# Altium schematic symbol library kmilo17pet-Maxim_Sensors.SchLib: 1172 symbols (part 2 of 61)
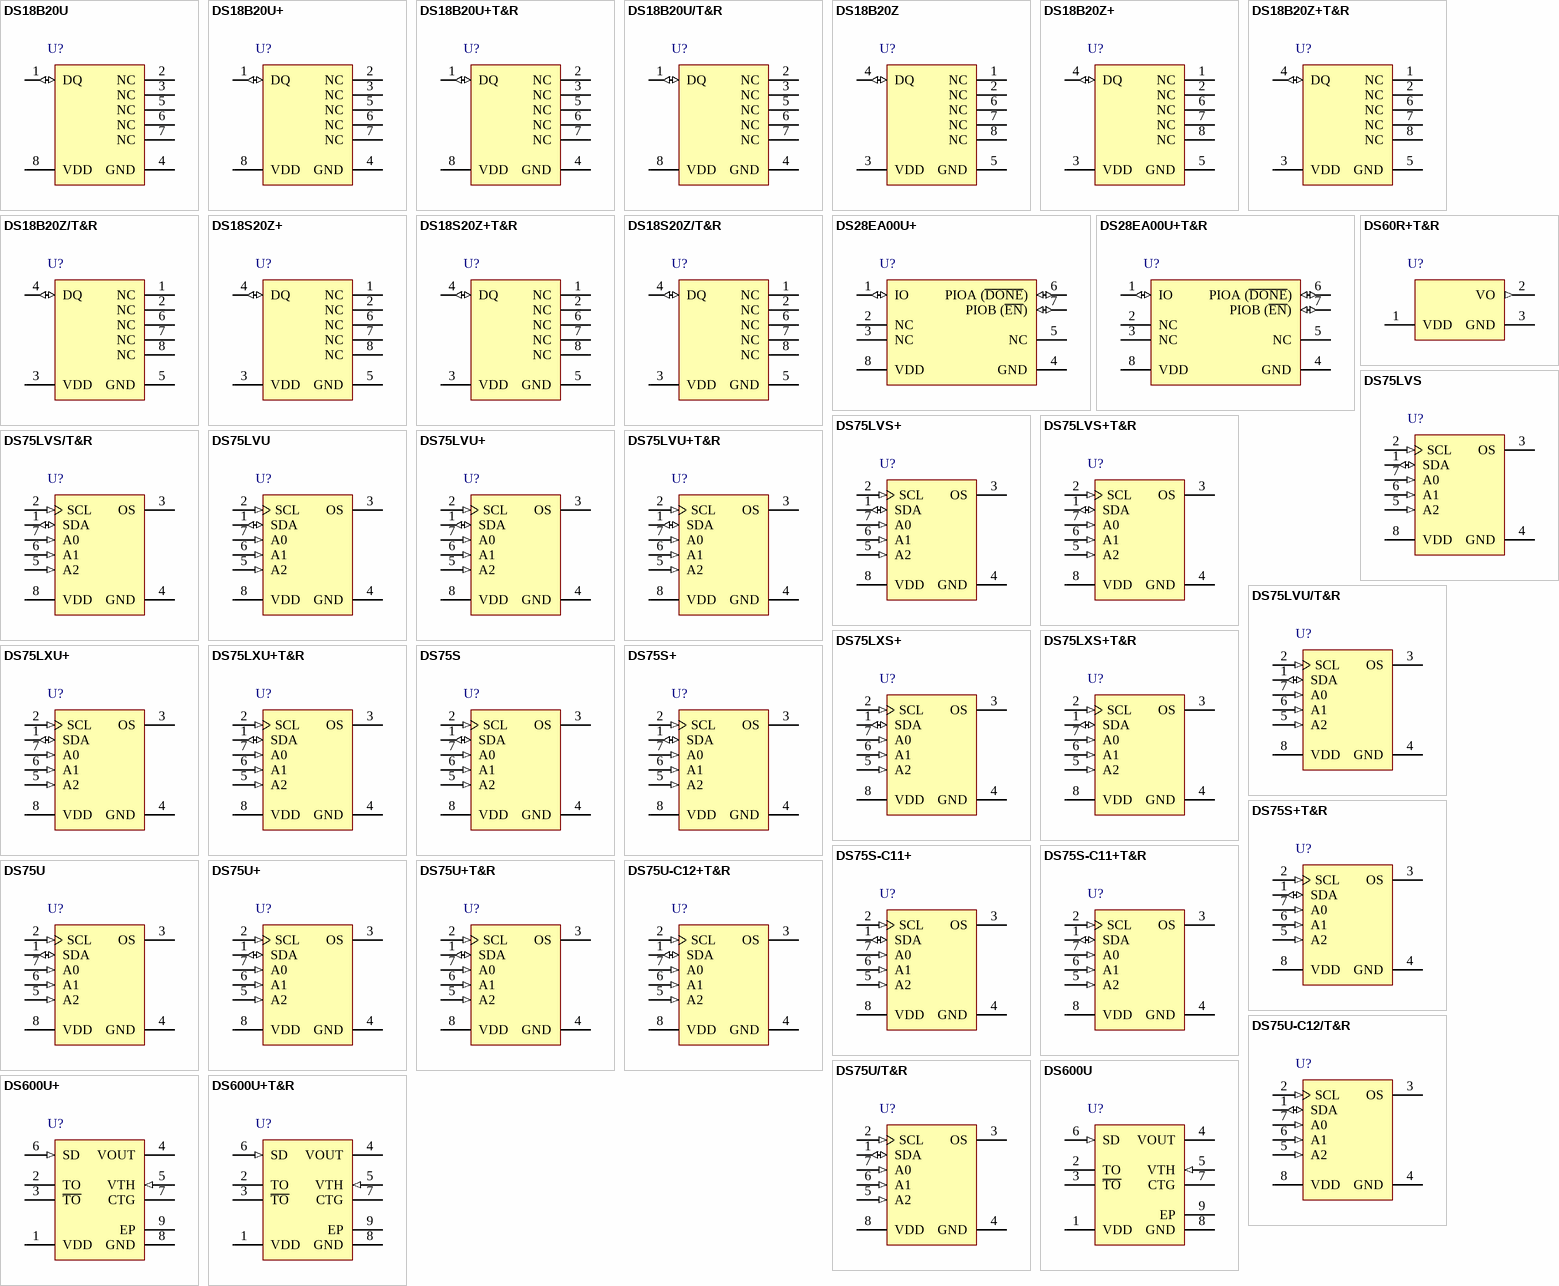
[diagram p34: symbols DS18B20U to DS600U+T&R]

## DS75S-C11+
designator U?
Digital Thermometer and Thermostat, 9 to 12 Bits Temperature Resolution, -55 to 125 degC, 8-Pin SOIC (S8+2), Pb-Free; Generic Part Number: DS75; PartNumber: DS75S-C11+; Interface: 2-Wire/I2C/SMBus; Multi Droppable: Yes; Parasite Pwr.: No; DatasheetVersion: Rev. 4; PackageVersion: Rev. D, 10/2012; PackageReference: S8+2; PackageDescription: 8-Pin Small-Outline IC, Narrow (0.15in) (S8+2), Body 4.90 x 3.90 mm, Pitch 1.27 mm; Supplier 1: Digi-Key; Supplier Part Number 1: DS75S-C11+-ND; Supplier 2: Mouser; Supplier Part Number 2: 700-DS75S-C11+; Mounting Technology: Surface Mount; Code_JEDEC: MS012; ComponentLink1Description: Manufacturer URL; ComponentLink1URL: http://www.maximintegrated.com/; ComponentLink2Description: Datasheet; ComponentLink2URL: http://datasheets.maximintegrated.com/en/ds/DS75.pdf; ComponentLink3Description: Package Specification; ComponentLink3URL: http://pdfserv.maximintegrated.com/package_dwgs/21-0041.PDF
footprint MAXM-S8+2_N (SOIC, 8-Leads, Body 4.90x3.90mm, Pitch 1.27mm, IPC Medium Density)
footprint MAXM-S8+2_L (SOIC, 8-Leads, Body 4.90x3.90mm, Pitch 1.27mm, IPC High Density)
footprint MAXM-S8+2_M (SOIC, 8-Leads, Body 4.90x3.90mm, Pitch 1.27mm, IPC Low Density)
pins: 1 SDA (io) "Data input/output pin for 2-wire serial communication port. Open drain.", 2 SCL (in) "Clock input pin for 2-wire serial communication port.", 3 OS (oc) "Thermostat output. Open drain.", 4 GND (power) "Ground pin.", 5 A2 (in) "Address input pin.", 6 A1 (in) "Address input pin.", 7 A0 (in) "Address input pin.", 8 VDD (power) "Supply Voltage. +2.7V to +5.5V supply pin."

## DS75S-C11+T&R
designator U?
Digital Thermometer and Thermostat, 9 to 12 Bits Temperature Resolution, -55 to 125 degC, 8-Pin SOIC (S8+2), Pb-Free, Tape and Reel; Generic Part Number: DS75; PartNumber: DS75S-C11+T&R; Interface: 2-Wire/I2C/SMBus; Multi Droppable: Yes; Parasite Pwr.: No; DatasheetVersion: Rev. 4; PackageVersion: Rev. D, 10/2012; PackageReference: S8+2; PackageDescription: 8-Pin Small-Outline IC, Narrow (0.15in) (S8+2), Body 4.90 x 3.90 mm, Pitch 1.27 mm; Supplier 1: Digi-Key; Supplier Part Number 1: DS75S-C11+T&R-ND; Supplier 2: Mouser; Supplier Part Number 2: 700-DS75S-C11+T&R; Packing: Tape and Reel; Mounting Technology: Surface Mount; Code_JEDEC: MS012; ComponentLink1Description: Manufacturer URL; ComponentLink1URL: http://www.maximintegrated.com/; ComponentLink2Description: Datasheet; ComponentLink2URL: http://datasheets.maximintegrated.com/en/ds/DS75.pdf; ComponentLink3Description: Package Specification; ComponentLink3URL: http://pdfserv.maximintegrated.com/package_dwgs/21-0041.PDF
footprint MAXM-S8+2_N (SOIC, 8-Leads, Body 4.90x3.90mm, Pitch 1.27mm, IPC Medium Density)
footprint MAXM-S8+2_L (SOIC, 8-Leads, Body 4.90x3.90mm, Pitch 1.27mm, IPC High Density)
footprint MAXM-S8+2_M (SOIC, 8-Leads, Body 4.90x3.90mm, Pitch 1.27mm, IPC Low Density)
pins: 1 SDA (io) "Data input/output pin for 2-wire serial communication port. Open drain.", 2 SCL (in) "Clock input pin for 2-wire serial communication port.", 3 OS (oc) "Thermostat output. Open drain.", 4 GND (power) "Ground pin.", 5 A2 (in) "Address input pin.", 6 A1 (in) "Address input pin.", 7 A0 (in) "Address input pin.", 8 VDD (power) "Supply Voltage. +2.7V to +5.5V supply pin."

## DS75U
designator U?
Digital Thermometer and Thermostat, 9 to 12 Bits Temperature Resolution, -55 to 125 degC, 8-Pin SOP (U8-1); Generic Part Number: DS75; PartNumber: DS75U; Interface: 2-Wire/I2C/SMBus; Multi Droppable: Yes; Parasite Pwr.: No; DatasheetVersion: Rev. 4; PackageVersion: Rev. L, 08/2009; PackageReference: U8-1; PackageDescription: 8-Pin Micro-MAX, Thin Shrink Small-Outline (U8-1), Body 3 x 3 mm, Pitch 0.65mm; Supplier 1: Digi-Key; Supplier Part Number 1: DS75U-ND; Supplier 2: Mouser; Supplier Part Number 2: N/A; Mounting Technology: Surface Mount; Code_JEDEC: MO-187; ComponentLink1Description: Manufacturer URL; ComponentLink1URL: http://www.maximintegrated.com/; ComponentLink2Description: Datasheet; ComponentLink2URL: http://datasheets.maximintegrated.com/en/ds/DS75.pdf; ComponentLink3Description: Package Specification; ComponentLink3URL: http://pdfserv.maximintegrated.com/package_dwgs/21-0036.PDF
footprint MAXM-U8-1_N (SOP, 8-Leads, Body 3x3mm, Pitch 0.65mm, IPC Medium Density)
footprint MAXM-U8-1_L (SOP, 8-Leads, Body 3x3mm, Pitch 0.65mm, IPC High Density)
footprint MAXM-U8-1_M (SOP, 8-Leads, Body 3x3mm, Pitch 0.65mm, IPC Low Density)
pins: 1 SDA (io) "Data input/output pin for 2-wire serial communication port. Open drain.", 2 SCL (in) "Clock input pin for 2-wire serial communication port.", 3 OS (oc) "Thermostat output. Open drain.", 4 GND (power) "Ground pin.", 5 A2 (in) "Address input pin.", 6 A1 (in) "Address input pin.", 7 A0 (in) "Address input pin.", 8 VDD (power) "Supply Voltage. +2.7V to +5.5V supply pin."

## DS75U+
designator U?
Digital Thermometer and Thermostat, 9 to 12 Bits Temperature Resolution, -55 to 125 degC, 8-Pin SOP (U8+1), Pb-Free; Generic Part Number: DS75; PartNumber: DS75U+; Interface: 2-Wire/I2C/SMBus; Multi Droppable: Yes; Parasite Pwr.: No; DatasheetVersion: Rev. 4; PackageVersion: Rev. L, 08/2009; PackageReference: U8+1; PackageDescription: 8-Pin Micro-MAX, Thin Shrink Small-Outline (U8+1), Body 3 x 3 mm, Pitch 0.65 mm; Supplier 1: Digi-Key; Supplier Part Number 1: DS75U+-ND; Supplier 2: Farnell; Supplier Part Number 2: 2085098; Supplier 3: Newark; Supplier Part Number 3: 89T8697; Supplier 4: Newark; Supplier Part Number 4: 08J6306; Supplier 5: Mouser; Supplier Part Number 5: 700-DS75U; Mounting Technology: Surface Mount; Code_JEDEC: MO-187; ComponentLink1Description: Manufacturer URL; ComponentLink1URL: http://www.maximintegrated.com/; ComponentLink2Description: Datasheet; ComponentLink2URL: http://datasheets.maximintegrated.com/en/ds/DS75.pdf; ComponentLink3Description: Package Specification; ComponentLink3URL: http://pdfserv.maximintegrated.com/package_dwgs/21-0036.PDF
footprint MAXM-U8+1_N (SOP, 8-Leads, Body 3x3mm, Pitch 0.65mm, IPC Medium Density)
footprint MAXM-U8+1_L (SOP, 8-Leads, Body 3x3mm, Pitch 0.65mm, IPC High Density)
footprint MAXM-U8+1_M (SOP, 8-Leads, Body 3x3mm, Pitch 0.65mm, IPC Low Density)
pins: 1 SDA (io) "Data input/output pin for 2-wire serial communication port. Open drain.", 2 SCL (in) "Clock input pin for 2-wire serial communication port.", 3 OS (oc) "Thermostat output. Open drain.", 4 GND (power) "Ground pin.", 5 A2 (in) "Address input pin.", 6 A1 (in) "Address input pin.", 7 A0 (in) "Address input pin.", 8 VDD (power) "Supply Voltage. +2.7V to +5.5V supply pin."

## DS75U+T&R
designator U?
Digital Thermometer and Thermostat, 9 to 12 Bits Temperature Resolution, -55 to 125 degC, 8-Pin SOP (U8+1), Pb-Free, Tape and Reel; Generic Part Number: DS75; PartNumber: DS75U+T&R; Interface: 2-Wire/I2C/SMBus; Multi Droppable: Yes; Parasite Pwr.: No; DatasheetVersion: Rev. 4; PackageVersion: Rev. L, 08/2009; PackageReference: U8+1; PackageDescription: 8-Pin Micro-MAX, Thin Shrink Small-Outline (U8+1), Body 3 x 3 mm, Pitch 0.65 mm; Supplier 1: Digi-Key; Supplier Part Number 1: DS75U+T&R-ND; Supplier 2: Mouser; Supplier Part Number 2: 700-DS75UT&R; Packing: Tape and Reel; Mounting Technology: Surface Mount; Code_JEDEC: MO-187; ComponentLink1Description: Manufacturer URL; ComponentLink1URL: http://www.maximintegrated.com/; ComponentLink2Description: Datasheet; ComponentLink2URL: http://datasheets.maximintegrated.com/en/ds/DS75.pdf; ComponentLink3Description: Package Specification; ComponentLink3URL: http://pdfserv.maximintegrated.com/package_dwgs/21-0036.PDF
footprint MAXM-U8+1_N (SOP, 8-Leads, Body 3x3mm, Pitch 0.65mm, IPC Medium Density)
footprint MAXM-U8+1_L (SOP, 8-Leads, Body 3x3mm, Pitch 0.65mm, IPC High Density)
footprint MAXM-U8+1_M (SOP, 8-Leads, Body 3x3mm, Pitch 0.65mm, IPC Low Density)
pins: 1 SDA (io) "Data input/output pin for 2-wire serial communication port. Open drain.", 2 SCL (in) "Clock input pin for 2-wire serial communication port.", 3 OS (oc) "Thermostat output. Open drain.", 4 GND (power) "Ground pin.", 5 A2 (in) "Address input pin.", 6 A1 (in) "Address input pin.", 7 A0 (in) "Address input pin.", 8 VDD (power) "Supply Voltage. +2.7V to +5.5V supply pin."

## DS75U-C12+T&R
designator U?
Digital Thermometer and Thermostat, 9 to 12 Bits Temperature Resolution, -55 to 125 degC, 8-Pin SOP (U8+1), Pb-Free, Tape and Reel; Generic Part Number: DS75; PartNumber: DS75U-C12+T&R; Interface: 2-Wire/I2C/SMBus; Multi Droppable: Yes; Parasite Pwr.: No; DatasheetVersion: Rev. 4; PackageVersion: Rev. L, 08/2009; PackageReference: U8+1; PackageDescription: 8-Pin Micro-MAX, Thin Shrink Small-Outline (U8+1), Body 3 x 3 mm, Pitch 0.65 mm; Supplier 1: Mouser; Supplier Part Number 1: N/A; Packing: Tape and Reel; Mounting Technology: Surface Mount; Code_JEDEC: MO-187; ComponentLink1Description: Manufacturer URL; ComponentLink1URL: http://www.maximintegrated.com/; ComponentLink2Description: Datasheet; ComponentLink2URL: http://datasheets.maximintegrated.com/en/ds/DS75.pdf; ComponentLink3Description: Package Specification; ComponentLink3URL: http://pdfserv.maximintegrated.com/package_dwgs/21-0036.PDF
footprint MAXM-U8+1_N (SOP, 8-Leads, Body 3x3mm, Pitch 0.65mm, IPC Medium Density)
footprint MAXM-U8+1_L (SOP, 8-Leads, Body 3x3mm, Pitch 0.65mm, IPC High Density)
footprint MAXM-U8+1_M (SOP, 8-Leads, Body 3x3mm, Pitch 0.65mm, IPC Low Density)
pins: 1 SDA (io) "Data input/output pin for 2-wire serial communication port. Open drain.", 2 SCL (in) "Clock input pin for 2-wire serial communication port.", 3 OS (oc) "Thermostat output. Open drain.", 4 GND (power) "Ground pin.", 5 A2 (in) "Address input pin.", 6 A1 (in) "Address input pin.", 7 A0 (in) "Address input pin.", 8 VDD (power) "Supply Voltage. +2.7V to +5.5V supply pin."

## DS75U-C12/T&R
designator U?
Digital Thermometer and Thermostat, 9 to 12 Bits Temperature Resolution, -55 to 125 degC, 8-Pin SOP (U8-1), Tape and Reel; Generic Part Number: DS75; PartNumber: DS75U-C12/T&R; Interface: 2-Wire/I2C/SMBus; Multi Droppable: Yes; Parasite Pwr.: No; DatasheetVersion: Rev. 4; PackageVersion: Rev. L, 08/2009; PackageReference: U8-1; PackageDescription: 8-Pin Micro-MAX, Thin Shrink Small-Outline (U8-1), Body 3 x 3 mm, Pitch 0.65mm; Supplier 1: Mouser; Supplier Part Number 1: N/A; Packing: Tape and Reel; Mounting Technology: Surface Mount; Code_JEDEC: MO-187; ComponentLink1Description: Manufacturer URL; ComponentLink1URL: http://www.maximintegrated.com/; ComponentLink2Description: Datasheet; ComponentLink2URL: http://datasheets.maximintegrated.com/en/ds/DS75.pdf; ComponentLink3Description: Package Specification; ComponentLink3URL: http://pdfserv.maximintegrated.com/package_dwgs/21-0036.PDF
footprint MAXM-U8-1_N (SOP, 8-Leads, Body 3x3mm, Pitch 0.65mm, IPC Medium Density)
footprint MAXM-U8-1_L (SOP, 8-Leads, Body 3x3mm, Pitch 0.65mm, IPC High Density)
footprint MAXM-U8-1_M (SOP, 8-Leads, Body 3x3mm, Pitch 0.65mm, IPC Low Density)
pins: 1 SDA (io) "Data input/output pin for 2-wire serial communication port. Open drain.", 2 SCL (in) "Clock input pin for 2-wire serial communication port.", 3 OS (oc) "Thermostat output. Open drain.", 4 GND (power) "Ground pin.", 5 A2 (in) "Address input pin.", 6 A1 (in) "Address input pin.", 7 A0 (in) "Address input pin.", 8 VDD (power) "Supply Voltage. +2.7V to +5.5V supply pin."

## DS75U/T&R
designator U?
Digital Thermometer and Thermostat, 9 to 12 Bits Temperature Resolution, -55 to 125 degC, 8-Pin SOP (U8-1), Tape and Reel; Generic Part Number: DS75; PartNumber: DS75U/T&R; Interface: 2-Wire/I2C/SMBus; Multi Droppable: Yes; Parasite Pwr.: No; DatasheetVersion: Rev. 4; PackageVersion: Rev. L, 08/2009; PackageReference: U8-1; PackageDescription: 8-Pin Micro-MAX, Thin Shrink Small-Outline (U8-1), Body 3 x 3 mm, Pitch 0.65mm; Supplier 1: Mouser; Supplier Part Number 1: N/A; Packing: Tape and Reel; Mounting Technology: Surface Mount; Code_JEDEC: MO-187; ComponentLink1Description: Manufacturer URL; ComponentLink1URL: http://www.maximintegrated.com/; ComponentLink2Description: Datasheet; ComponentLink2URL: http://datasheets.maximintegrated.com/en/ds/DS75.pdf; ComponentLink3Description: Package Specification; ComponentLink3URL: http://pdfserv.maximintegrated.com/package_dwgs/21-0036.PDF
footprint MAXM-U8-1_N (SOP, 8-Leads, Body 3x3mm, Pitch 0.65mm, IPC Medium Density)
footprint MAXM-U8-1_L (SOP, 8-Leads, Body 3x3mm, Pitch 0.65mm, IPC High Density)
footprint MAXM-U8-1_M (SOP, 8-Leads, Body 3x3mm, Pitch 0.65mm, IPC Low Density)
pins: 1 SDA (io) "Data input/output pin for 2-wire serial communication port. Open drain.", 2 SCL (in) "Clock input pin for 2-wire serial communication port.", 3 OS (oc) "Thermostat output. Open drain.", 4 GND (power) "Ground pin.", 5 A2 (in) "Address input pin.", 6 A1 (in) "Address input pin.", 7 A0 (in) "Address input pin.", 8 VDD (power) "Supply Voltage. +2.7V to +5.5V supply pin."

## DS600U
designator U?
+ / -0.5 degC (Max) Accurate Analog Output Temperature Sensor, -40 to 125 degC, 8-Pin SOP (U8E-2); Generic Part Number: DS600; PartNumber: DS600U; Functions: Standalone Thermostat; Parasite Pwr.: No; DatasheetVersion: Rev. 2; PackageVersion: Rev. E, 05/2011; PackageReference: U8E-2; PackageDescription: 8-Pin Micro-MAX, Thin Shrink Small-Outline, Exposed Pad, Body 3 x 3 mm, Exposed Pad 2.36 x 1.69 mm, Pitch 0.65 mm; Supplier 1: Mouser; Supplier Part Number 1: N/A; Interface: Analog; Mounting Technology: Surface Mount; Code_JEDEC: MO-187; ComponentLink1Description: Manufacturer URL; ComponentLink1URL: http://www.maximintegrated.com/; ComponentLink2Description: Datasheet; ComponentLink2URL: http://datasheets.maximintegrated.com/en/ds/DS600.pdf; ComponentLink3Description: Package Specification; ComponentLink3URL: http://pdfserv.maximintegrated.com/package_dwgs/21-0107.PDF
footprint MAXM-U8E-2_N (SOP, 8-Leads, Body 3x3mm, Pitch 0.65mm, Thermal Pad 2.36x1.69 mm, IPC Medium Density)
footprint MAXM-U8E-2_L (SOP, 8-Leads, Body 3x3mm, Pitch 0.65mm, Thermal Pad 2.36x1.69 mm, IPC High Density)
footprint MAXM-U8E-2_M (SOP, 8-Leads, Body 3x3mm, Pitch 0.65mm, Thermal Pad 2.36x1.69 mm, IPC Low Density)
pins: 1 VDD (power) "Supply Voltage. 2.7V to 5.5V", 2 TO (oc) "Active-High Thermostat Output. Open-drain output transitions from low to high when the output voltage exceeds VTH. In shutdown mode, (SD = 1), TO is low.", 3 ~{TO} (oc) "Active-Low Thermostat Output. Open-drain output transitions from high to low when the output voltage exceeds VTH. In shutdown mode, (SD = 1), T\O\ is high", 4 VOUT (hiz) "Temperature Output. Outputs a voltage that is proportional to the die temperature in degrees centigrade. In shutdown mode, this pin goes high-Z", 5 VTH (in) "Thermostat Trip Voltage. User-selectable voltage that sets the thermostat trip-point temperature. TO and T\O\ are asserted when VOUT crosses this voltage. (No on-chip hysteresis is present).", 6 SD (in) "Shutdown. Power consumption and thermal sensor function are controlled through SD. This pin  functions as an active-high input pin. Driving this pin high puts the device in a low-power state and discontinues thermal sensing", 7 CTG (power) "Must be connected to GND.", 8 GND (power) "Ground.", 9 EP (power) "PAD. Connect to GND or float. DO NOT CONNECT TO SUPPLY."

## DS600U+
designator U?
+ / -0.5 degC (Max) Accurate Analog Output Temperature Sensor, -40 to 125 degC, 8-Pin SOP (U8E+2), Pb-Free; Generic Part Number: DS600; PartNumber: DS600U+; Functions: Standalone Thermostat; Parasite Pwr.: No; DatasheetVersion: Rev. 2; PackageVersion: Rev. E, 05/2011; PackageReference: U8E+2; PackageDescription: 8-Pin Micro-MAX, Thin Shrink Small-Outline, Exposed Pad, Body 3 x 3 mm, Exposed Pad 2.36 x 1.69 mm, Pitch 0.65 mm; Supplier 1: Digi-Key; Supplier Part Number 1: DS600U+-ND; Supplier 2: Farnell; Supplier Part Number 2: 1422277; Supplier 3: Newark; Supplier Part Number 3: 26R5860; Supplier 4: Mouser; Supplier Part Number 4: 700-DS600U; Interface: Analog; Mounting Technology: Surface Mount; Code_JEDEC: MO-187; ComponentLink1Description: Manufacturer URL; ComponentLink1URL: http://www.maximintegrated.com/; ComponentLink2Description: Datasheet; ComponentLink2URL: http://datasheets.maximintegrated.com/en/ds/DS600.pdf; ComponentLink3Description: Package Specification; ComponentLink3URL: http://pdfserv.maximintegrated.com/package_dwgs/21-0107.PDF
footprint MAXM-U8E+2_N (SOP, 8-Leads, Body 3x3mm, Pitch 0.65mm, Thermal Pad 2.36x1.69 mm, IPC Medium Density)
footprint MAXM-U8E+2_L (SOP, 8-Leads, Body 3x3mm, Pitch 0.65mm, Thermal Pad 2.36x1.69 mm, IPC High Density)
footprint MAXM-U8E+2_M (SOP, 8-Leads, Body 3x3mm, Pitch 0.65mm, Thermal Pad 2.36x1.69 mm, IPC Low Density)
pins: 1 VDD (power) "Supply Voltage. 2.7V to 5.5V", 2 TO (oc) "Active-High Thermostat Output. Open-drain output transitions from low to high when the output voltage exceeds VTH. In shutdown mode, (SD = 1), TO is low.", 3 ~{TO} (oc) "Active-Low Thermostat Output. Open-drain output transitions from high to low when the output voltage exceeds VTH. In shutdown mode, (SD = 1), T\O\ is high", 4 VOUT (hiz) "Temperature Output. Outputs a voltage that is proportional to the die temperature in degrees centigrade. In shutdown mode, this pin goes high-Z", 5 VTH (in) "Thermostat Trip Voltage. User-selectable voltage that sets the thermostat trip-point temperature. TO and T\O\ are asserted when VOUT crosses this voltage. (No on-chip hysteresis is present).", 6 SD (in) "Shutdown. Power consumption and thermal sensor function are controlled through SD. This pin  functions as an active-high input pin. Driving this pin high puts the device in a low-power state and discontinues thermal sensing", 7 CTG (power) "Must be connected to GND.", 8 GND (power) "Ground.", 9 EP (power) "PAD. Connect to GND or float. DO NOT CONNECT TO SUPPLY."

## DS600U+T&R
designator U?
+ / -0.5 degC (Max) Accurate Analog Output Temperature Sensor, -40 to 125 degC, 8-Pin SOP (U8E+2), Pb-Free, Tape and Reel; Generic Part Number: DS600; PartNumber: DS600U+T&R; Functions: Standalone Thermostat; Parasite Pwr.: No; DatasheetVersion: Rev. 2; PackageVersion: Rev. E, 05/2011; PackageReference: U8E+2; PackageDescription: 8-Pin Micro-MAX, Thin Shrink Small-Outline, Exposed Pad, Body 3 x 3 mm, Exposed Pad 2.36 x 1.69 mm, Pitch 0.65 mm; Supplier 1: Digi-Key; Supplier Part Number 1: DS600U+T&R-ND; Supplier 2: Mouser; Supplier Part Number 2: 700-DS600UT&R; Interface: Analog; Packing: Tape and Reel; Mounting Technology: Surface Mount; Code_JEDEC: MO-187; ComponentLink1Description: Manufacturer URL; ComponentLink1URL: http://www.maximintegrated.com/; ComponentLink2Description: Datasheet; ComponentLink2URL: http://datasheets.maximintegrated.com/en/ds/DS600.pdf; ComponentLink3Description: Package Specification; ComponentLink3URL: http://pdfserv.maximintegrated.com/package_dwgs/21-0107.PDF
footprint MAXM-U8E+2_N (SOP, 8-Leads, Body 3x3mm, Pitch 0.65mm, Thermal Pad 2.36x1.69 mm, IPC Medium Density)
footprint MAXM-U8E+2_L (SOP, 8-Leads, Body 3x3mm, Pitch 0.65mm, Thermal Pad 2.36x1.69 mm, IPC High Density)
footprint MAXM-U8E+2_M (SOP, 8-Leads, Body 3x3mm, Pitch 0.65mm, Thermal Pad 2.36x1.69 mm, IPC Low Density)
pins: 1 VDD (power) "Supply Voltage. 2.7V to 5.5V", 2 TO (oc) "Active-High Thermostat Output. Open-drain output transitions from low to high when the output voltage exceeds VTH. In shutdown mode, (SD = 1), TO is low.", 3 ~{TO} (oc) "Active-Low Thermostat Output. Open-drain output transitions from high to low when the output voltage exceeds VTH. In shutdown mode, (SD = 1), T\O\ is high", 4 VOUT (hiz) "Temperature Output. Outputs a voltage that is proportional to the die temperature in degrees centigrade. In shutdown mode, this pin goes high-Z", 5 VTH (in) "Thermostat Trip Voltage. User-selectable voltage that sets the thermostat trip-point temperature. TO and T\O\ are asserted when VOUT crosses this voltage. (No on-chip hysteresis is present).", 6 SD (in) "Shutdown. Power consumption and thermal sensor function are controlled through SD. This pin  functions as an active-high input pin. Driving this pin high puts the device in a low-power state and discontinues thermal sensing", 7 CTG (power) "Must be connected to GND.", 8 GND (power) "Ground.", 9 EP (power) "PAD. Connect to GND or float. DO NOT CONNECT TO SUPPLY."

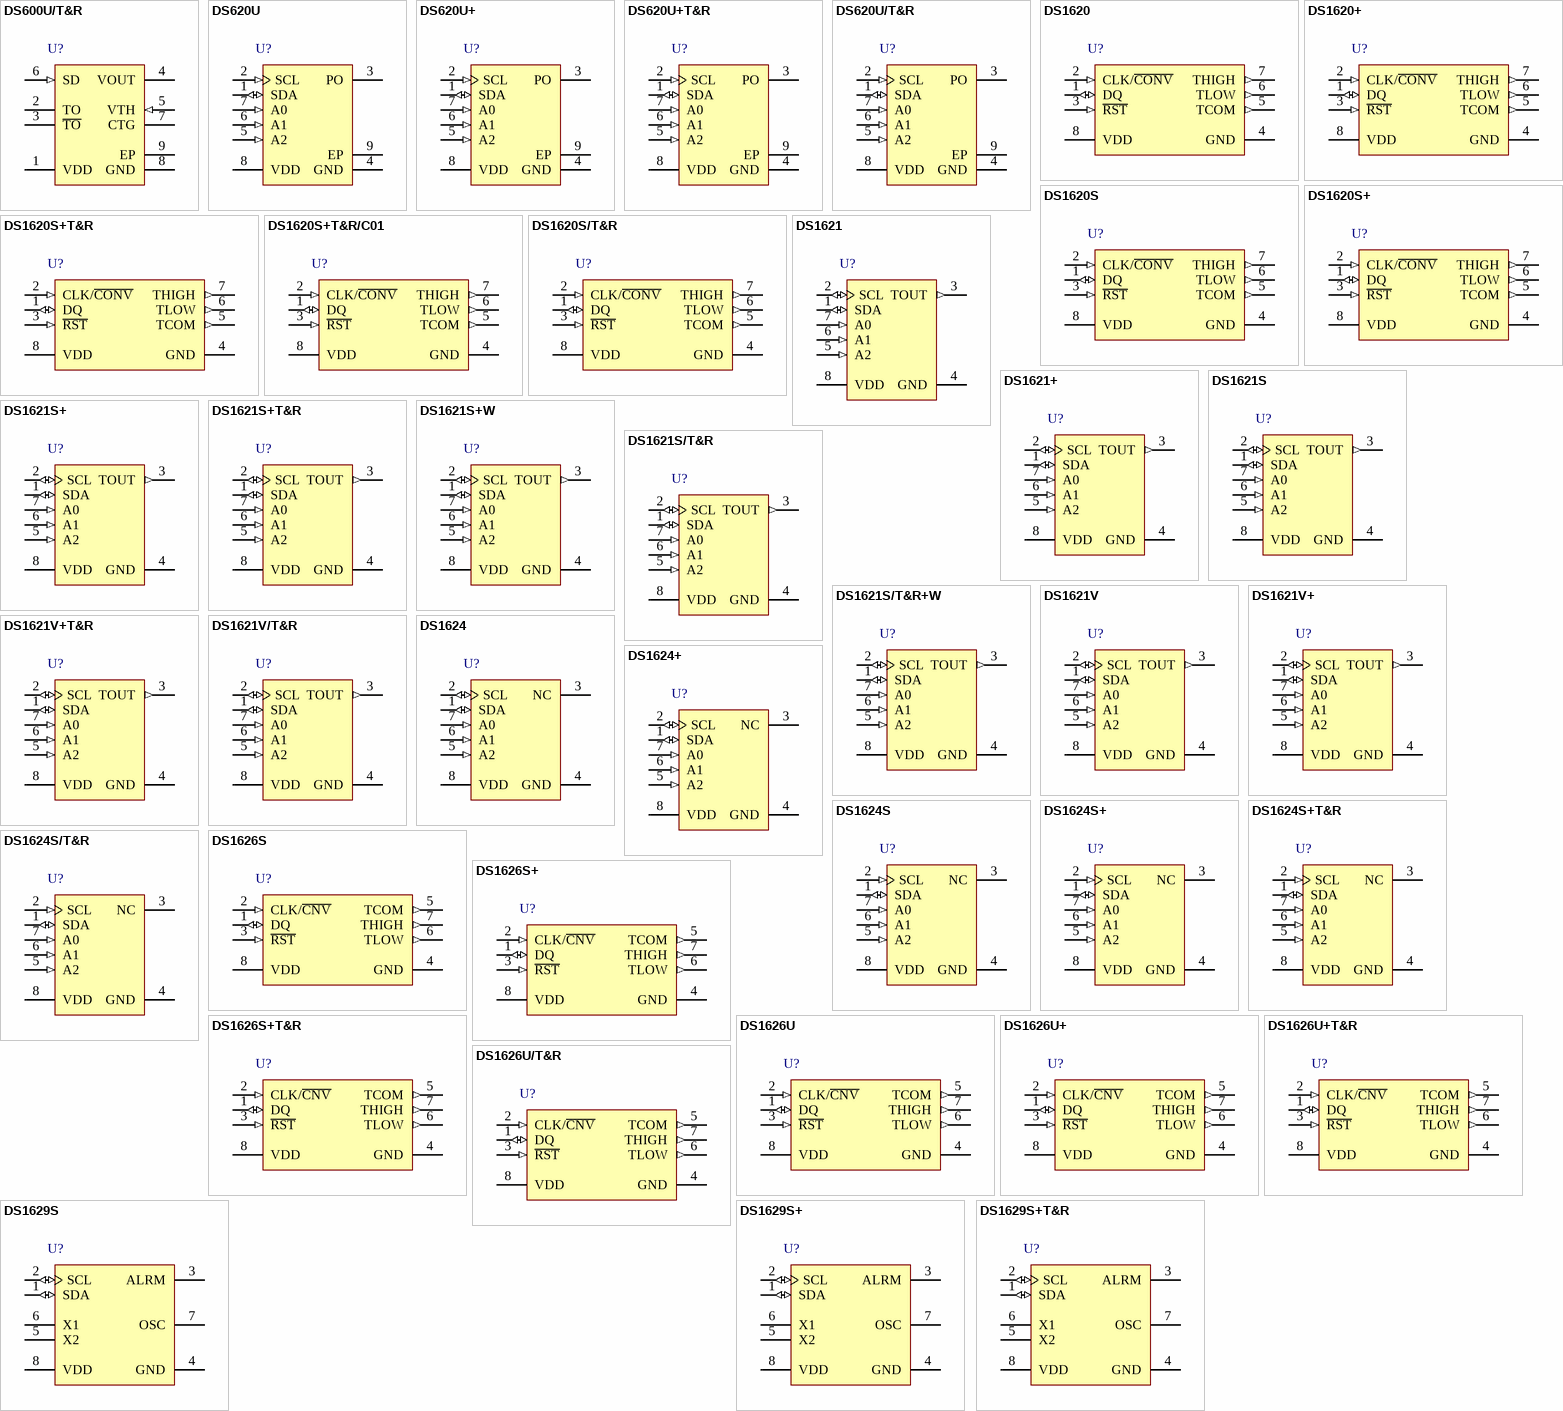
[diagram p1: symbols DS600U/T&R to DS1629S+T&R]

## DS600U/T&R
designator U?
+ / -0.5 degC (Max) Accurate Analog Output Temperature Sensor, -40 to 125 degC, 8-Pin SOP (U8E-2), Tape and Reel; Generic Part Number: DS600; PartNumber: DS600U/T&R; Functions: Standalone Thermostat; Parasite Pwr.: No; DatasheetVersion: Rev. 2; PackageVersion: Rev. E, 05/2011; PackageReference: U8E-2; PackageDescription: 8-Pin Micro-MAX, Thin Shrink Small-Outline, Exposed Pad, Body 3 x 3 mm, Exposed Pad 2.36 x 1.69 mm, Pitch 0.65 mm; Supplier 1: Mouser; Supplier Part Number 1: N/A; Interface: Analog; Packing: Tape and Reel; Mounting Technology: Surface Mount; Code_JEDEC: MO-187; ComponentLink1Description: Manufacturer URL; ComponentLink1URL: http://www.maximintegrated.com/; ComponentLink2Description: Datasheet; ComponentLink2URL: http://datasheets.maximintegrated.com/en/ds/DS600.pdf; ComponentLink3Description: Package Specification; ComponentLink3URL: http://pdfserv.maximintegrated.com/package_dwgs/21-0107.PDF
footprint MAXM-U8E-2_N (SOP, 8-Leads, Body 3x3mm, Pitch 0.65mm, Thermal Pad 2.36x1.69 mm, IPC Medium Density)
footprint MAXM-U8E-2_L (SOP, 8-Leads, Body 3x3mm, Pitch 0.65mm, Thermal Pad 2.36x1.69 mm, IPC High Density)
footprint MAXM-U8E-2_M (SOP, 8-Leads, Body 3x3mm, Pitch 0.65mm, Thermal Pad 2.36x1.69 mm, IPC Low Density)
pins: 1 VDD (power) "Supply Voltage. 2.7V to 5.5V", 2 TO (oc) "Active-High Thermostat Output. Open-drain output transitions from low to high when the output voltage exceeds VTH. In shutdown mode, (SD = 1), TO is low.", 3 ~{TO} (oc) "Active-Low Thermostat Output. Open-drain output transitions from high to low when the output voltage exceeds VTH. In shutdown mode, (SD = 1), T\O\ is high", 4 VOUT (hiz) "Temperature Output. Outputs a voltage that is proportional to the die temperature in degrees centigrade. In shutdown mode, this pin goes high-Z", 5 VTH (in) "Thermostat Trip Voltage. User-selectable voltage that sets the thermostat trip-point temperature. TO and T\O\ are asserted when VOUT crosses this voltage. (No on-chip hysteresis is present).", 6 SD (in) "Shutdown. Power consumption and thermal sensor function are controlled through SD. This pin  functions as an active-high input pin. Driving this pin high puts the device in a low-power state and discontinues thermal sensing", 7 CTG (power) "Must be connected to GND.", 8 GND (power) "Ground.", 9 EP (power) "PAD. Connect to GND or float. DO NOT CONNECT TO SUPPLY."

## DS620U
designator U?
Low-Voltage, + / -0.5 degC Accuracy Temperature Sensor and Thermostat, 10 to 13 Bits Temperature Resolution, -55 to 125 degC, 8-Pin SOP (U8E-2); Generic Part Number: DS620; PartNumber: DS620U; Functions: Standalone Thermostat; Interface: 2-Wire/I2C/SMBus; Multi Droppable: Yes; Parasite Pwr.: No; DatasheetVersion: Rev. 0; PackageVersion: Rev. E, 05/2011; PackageReference: U8E-2; PackageDescription: 8-Pin Micro-MAX, Thin Shrink Small-Outline, Exposed Pad, Body 3 x 3 mm, Exposed Pad 2.36 x 1.69 mm, Pitch 0.65 mm; Supplier 1: Mouser; Supplier Part Number 1: N/A; Mounting Technology: Surface Mount; Code_JEDEC: MO-187; ComponentLink1Description: Manufacturer URL; ComponentLink1URL: http://www.maximintegrated.com/; ComponentLink2Description: Datasheet; ComponentLink2URL: http://datasheets.maximintegrated.com/en/ds/DS620.pdf; ComponentLink3Description: Package Specification; ComponentLink3URL: http://pdfserv.maximintegrated.com/package_dwgs/21-0107.PDF
footprint MAXM-U8E-2_N (SOP, 8-Leads, Body 3x3mm, Pitch 0.65mm, Thermal Pad 2.36x1.69 mm, IPC Medium Density)
footprint MAXM-U8E-2_L (SOP, 8-Leads, Body 3x3mm, Pitch 0.65mm, Thermal Pad 2.36x1.69 mm, IPC High Density)
footprint MAXM-U8E-2_M (SOP, 8-Leads, Body 3x3mm, Pitch 0.65mm, Thermal Pad 2.36x1.69 mm, IPC Low Density)
pins: 1 SDA (io) "Data Input/Output Pin for serial communication. Open drain. (No diode connection to VDD).", 2 SCL (in) "Clock Input Pin for 2-wire serial communication.", 3 PO (oc) "Programmable Output Pin. Open drain. (No diode connection to VDD).", 4 GND (power) "Ground Pin.", 5 A2 (in) "Address Input Pin.", 6 A1 (in) "Address Input Pin. Also serves as an input to trigger one-shot conversions during standalone use.", 7 A0 (in) "Address Input Pin.", 8 VDD (power) "Supply Voltage Pin. +1.7V to +3.5V power supply pin.", 9 EP (power) "PAD. Connect to GND or float. DO NOT CONNECT TO SUPPLY"

## DS620U+
designator U?
Low-Voltage, + / -0.5 degC Accuracy Temperature Sensor and Thermostat, 10 to 13 Bits Temperature Resolution, -55 to 125 degC, 8-Pin SOP (U8E+2), Pb-Free; Generic Part Number: DS620; PartNumber: DS620U+; Functions: Standalone Thermostat; Interface: 2-Wire/I2C/SMBus; Multi Droppable: Yes; Parasite Pwr.: No; DatasheetVersion: Rev. 0; PackageVersion: Rev. E, 05/2011; PackageReference: U8E+2; PackageDescription: 8-Pin Micro-MAX, Thin Shrink Small-Outline, Exposed Pad, Body 3 x 3 mm, Exposed Pad 2.36 x 1.69 mm, Pitch 0.65 mm; Supplier 1: Digi-Key; Supplier Part Number 1: DS620U+-ND; Supplier 2: Farnell; Supplier Part Number 2: 2113186; Supplier 3: Newark; Supplier Part Number 3: 95T8629; Supplier 4: Mouser; Supplier Part Number 4: 700-DS620U; Mounting Technology: Surface Mount; Code_JEDEC: MO-187; ComponentLink1Description: Manufacturer URL; ComponentLink1URL: http://www.maximintegrated.com/; ComponentLink2Description: Datasheet; ComponentLink2URL: http://datasheets.maximintegrated.com/en/ds/DS620.pdf; ComponentLink3Description: Package Specification; ComponentLink3URL: http://pdfserv.maximintegrated.com/package_dwgs/21-0107.PDF
footprint MAXM-U8E+2_N (SOP, 8-Leads, Body 3x3mm, Pitch 0.65mm, Thermal Pad 2.36x1.69 mm, IPC Medium Density)
footprint MAXM-U8E+2_L (SOP, 8-Leads, Body 3x3mm, Pitch 0.65mm, Thermal Pad 2.36x1.69 mm, IPC High Density)
footprint MAXM-U8E+2_M (SOP, 8-Leads, Body 3x3mm, Pitch 0.65mm, Thermal Pad 2.36x1.69 mm, IPC Low Density)
pins: 1 SDA (io) "Data Input/Output Pin for serial communication. Open drain. (No diode connection to VDD).", 2 SCL (in) "Clock Input Pin for 2-wire serial communication.", 3 PO (oc) "Programmable Output Pin. Open drain. (No diode connection to VDD).", 4 GND (power) "Ground Pin.", 5 A2 (in) "Address Input Pin.", 6 A1 (in) "Address Input Pin. Also serves as an input to trigger one-shot conversions during standalone use.", 7 A0 (in) "Address Input Pin.", 8 VDD (power) "Supply Voltage Pin. +1.7V to +3.5V power supply pin.", 9 EP (power) "PAD. Connect to GND or float. DO NOT CONNECT TO SUPPLY"

## DS620U+T&R
designator U?
Low-Voltage, + / -0.5 degC Accuracy Temperature Sensor and Thermostat, 10 to 13 Bits Temperature Resolution, -55 to 125 degC, 8-Pin SOP (U8E+2), Pb-Free, Tape and Reel; Generic Part Number: DS620; PartNumber: DS620U+T&R; Functions: Standalone Thermostat; Interface: 2-Wire/I2C/SMBus; Multi Droppable: Yes; Parasite Pwr.: No; DatasheetVersion: Rev. 0; PackageVersion: Rev. E, 05/2011; PackageReference: U8E+2; PackageDescription: 8-Pin Micro-MAX, Thin Shrink Small-Outline, Exposed Pad, Body 3 x 3 mm, Exposed Pad 2.36 x 1.69 mm, Pitch 0.65 mm; Supplier 1: Digi-Key; Supplier Part Number 1: DS620U+T&R-ND; Supplier 2: Mouser; Supplier Part Number 2: 700-DS620UT&R; Packing: Tape and Reel; Mounting Technology: Surface Mount; Code_JEDEC: MO-187; ComponentLink1Description: Manufacturer URL; ComponentLink1URL: http://www.maximintegrated.com/; ComponentLink2Description: Datasheet; ComponentLink2URL: http://datasheets.maximintegrated.com/en/ds/DS620.pdf; ComponentLink3Description: Package Specification; ComponentLink3URL: http://pdfserv.maximintegrated.com/package_dwgs/21-0107.PDF
footprint MAXM-U8E+2_N (SOP, 8-Leads, Body 3x3mm, Pitch 0.65mm, Thermal Pad 2.36x1.69 mm, IPC Medium Density)
footprint MAXM-U8E+2_L (SOP, 8-Leads, Body 3x3mm, Pitch 0.65mm, Thermal Pad 2.36x1.69 mm, IPC High Density)
footprint MAXM-U8E+2_M (SOP, 8-Leads, Body 3x3mm, Pitch 0.65mm, Thermal Pad 2.36x1.69 mm, IPC Low Density)
pins: 1 SDA (io) "Data Input/Output Pin for serial communication. Open drain. (No diode connection to VDD).", 2 SCL (in) "Clock Input Pin for 2-wire serial communication.", 3 PO (oc) "Programmable Output Pin. Open drain. (No diode connection to VDD).", 4 GND (power) "Ground Pin.", 5 A2 (in) "Address Input Pin.", 6 A1 (in) "Address Input Pin. Also serves as an input to trigger one-shot conversions during standalone use.", 7 A0 (in) "Address Input Pin.", 8 VDD (power) "Supply Voltage Pin. +1.7V to +3.5V power supply pin.", 9 EP (power) "PAD. Connect to GND or float. DO NOT CONNECT TO SUPPLY"

## DS620U/T&R
designator U?
Low-Voltage, + / -0.5 degC Accuracy Temperature Sensor and Thermostat, 10 to 13 Bits Temperature Resolution, -55 to 125 degC, 8-Pin SOP (U8E-2), Tape and Reel; Generic Part Number: DS620; PartNumber: DS620U/T&R; Functions: Standalone Thermostat; Interface: 2-Wire/I2C/SMBus; Multi Droppable: Yes; Parasite Pwr.: No; DatasheetVersion: Rev. 0; PackageVersion: Rev. E, 05/2011; PackageReference: U8E-2; PackageDescription: 8-Pin Micro-MAX, Thin Shrink Small-Outline, Exposed Pad, Body 3 x 3 mm, Exposed Pad 2.36 x 1.69 mm, Pitch 0.65 mm; Supplier 1: Mouser; Supplier Part Number 1: N/A; Packing: Tape and Reel; Mounting Technology: Surface Mount; Code_JEDEC: MO-187; ComponentLink1Description: Manufacturer URL; ComponentLink1URL: http://www.maximintegrated.com/; ComponentLink2Description: Datasheet; ComponentLink2URL: http://datasheets.maximintegrated.com/en/ds/DS620.pdf; ComponentLink3Description: Package Specification; ComponentLink3URL: http://pdfserv.maximintegrated.com/package_dwgs/21-0107.PDF
footprint MAXM-U8E-2_N (SOP, 8-Leads, Body 3x3mm, Pitch 0.65mm, Thermal Pad 2.36x1.69 mm, IPC Medium Density)
footprint MAXM-U8E-2_L (SOP, 8-Leads, Body 3x3mm, Pitch 0.65mm, Thermal Pad 2.36x1.69 mm, IPC High Density)
footprint MAXM-U8E-2_M (SOP, 8-Leads, Body 3x3mm, Pitch 0.65mm, Thermal Pad 2.36x1.69 mm, IPC Low Density)
pins: 1 SDA (io) "Data Input/Output Pin for serial communication. Open drain. (No diode connection to VDD).", 2 SCL (in) "Clock Input Pin for 2-wire serial communication.", 3 PO (oc) "Programmable Output Pin. Open drain. (No diode connection to VDD).", 4 GND (power) "Ground Pin.", 5 A2 (in) "Address Input Pin.", 6 A1 (in) "Address Input Pin. Also serves as an input to trigger one-shot conversions during standalone use.", 7 A0 (in) "Address Input Pin.", 8 VDD (power) "Supply Voltage Pin. +1.7V to +3.5V power supply pin.", 9 EP (power) "PAD. Connect to GND or float. DO NOT CONNECT TO SUPPLY"

## DS1620
designator U?
3-Wire 0.5 degC Accurate Temperature Sensor and Thermostat, -55 to 125 degC, 8-Pin DIP (P8-3); Generic Part Number: DS1620; Functions: Dual Output Temperature Switch, Dual Temperature Alarms, Standalone Thermostat, Temperature Switch/Temperature Comparator; Interface: 3-Wire, Logic; Switch Type: Local; DatasheetVersion: Rev. 3; PackageVersion: Rev. E, 04/2011; PackageReference: P8-3; PackageDescription: 8-Pin Plastic Dual-In-Line, Narrow (0.3in) (P8-3), Body 9.375 x 6.985 mm, Pitch 2.54 mm; Supplier 1: Digi-Key; Supplier Part Number 1: DS1620-ND; Supplier 2: Mouser; Supplier Part Number 2: N/A; Mounting Technology: Through Hole; Code_JEDEC: MO-058AB; PartNumber: DS1620; ComponentLink1Description: Manufacturer URL; ComponentLink1URL: http://www.maximintegrated.com/; ComponentLink2Description: Datasheet; ComponentLink2URL: http://datasheets.maximintegrated.com/en/ds/DS1620; ComponentLink3Description: Package Specification; ComponentLink3URL: http://pdfserv.maximintegrated.com/package_dwgs/21-0043.PDF
footprint MAXM-P8-3 (DIP, 8-Leads, Body 9.375x6.985mm, Pitch 2.54mm)
pins: 1 DQ (io) "Data Input/Output pin for 3-wire communication port.", 2 CLK/~{CONV} (in) "Clock input pin for 3-wire communication port. When the DS1620 is used in a stand-alone application with no 3-wire port, this pin can be used as a convert pin. Temperature conversion will begin on the falling edge of (See Datasheet)", 3 ~{RST} (in) "Reset input pin for 3-wire communication port.", 4 GND (power) "Ground pin.", 5 TCOM (out) "High/Low Combination Trigger. Goes high when temperature exceeds TH; will reset to low when temperature falls below TL.", 6 TLOW (out) "Low Temperature Trigger. Goes high when temperature falls below TL.", 7 THIGH (out) "High Temperature Trigger. Goes high when temperature exceeds TH.", 8 VDD (power) "Supply Voltage. 2.7V - 5.5V input power pin."

## DS1620+
designator U?
3-Wire 0.5 degC Accurate Temperature Sensor and Thermostat, -55 to 125 degC, 8-Pin DIP (P8+3), Pb-Free; Generic Part Number: DS1620; PartNumber: DS1620+; Functions: Dual Output Temperature Switch, Dual Temperature Alarms, Standalone Thermostat, Temperature Switch/Temperature Comparator; Interface: 3-Wire, Logic; Switch Type: Local; DatasheetVersion: Rev. 3; PackageVersion: Rev. E, 04/2011; PackageReference: P8+3; PackageDescription: 8-Pin Plastic Dual-In-Line, Narrow (0.3in) (P8+3), Body 9.375 x 6.985 mm, Pitch 2.54 mm; Supplier 1: Digi-Key; Supplier Part Number 1: DS1620+-ND; Supplier 2: Farnell; Supplier Part Number 2: 1187998; Supplier 3: Newark; Supplier Part Number 3: 96K8881; Supplier 4: Mouser; Supplier Part Number 4: 700-DS1620; RoHS: Pb-Free; Mounting Technology: Through Hole; Code_JEDEC: MO-058AB; ComponentLink1Description: Manufacturer URL; ComponentLink1URL: http://www.maximintegrated.com/; ComponentLink2Description: Datasheet; ComponentLink2URL: http://datasheets.maximintegrated.com/en/ds/DS1620; ComponentLink3Description: Package Specification; ComponentLink3URL: http://pdfserv.maximintegrated.com/package_dwgs/21-0043.PDF
footprint MAXM-P8+3 (DIP, 8-Leads, Body 9.375x6.985mm, Pitch 2.54mm)
pins: 1 DQ (io) "Data Input/Output pin for 3-wire communication port.", 2 CLK/~{CONV} (in) "Clock input pin for 3-wire communication port. When the DS1620 is used in a stand-alone application with no 3-wire port, this pin can be used as a convert pin. Temperature conversion will begin on the falling edge of (See Datasheet)", 3 ~{RST} (in) "Reset input pin for 3-wire communication port.", 4 GND (power) "Ground pin.", 5 TCOM (out) "High/Low Combination Trigger. Goes high when temperature exceeds TH; will reset to low when temperature falls below TL.", 6 TLOW (out) "Low Temperature Trigger. Goes high when temperature falls below TL.", 7 THIGH (out) "High Temperature Trigger. Goes high when temperature exceeds TH.", 8 VDD (power) "Supply Voltage. 2.7V - 5.5V input power pin."

## DS1620S
designator U?
3-Wire 0.5 degC Accurate Temperature Sensor and Thermostat, -55 to 125 degC, 8-Pin SOIC (W8-2); Generic Part Number: DS1620; PartNumber: DS1620S; Functions: Dual Output Temperature Switch, Dual Temperature Alarms, Standalone Thermostat, Temperature Switch/Temperature Comparator; Interface: 3-Wire, Logic; Switch Type: Local; DatasheetVersion: Rev. 3; PackageVersion: Rev. B, 01/2010; PackageReference: W8-2; PackageDescription: 8-Pin Small-Outline IC, Body 5.285 x 5.31 mm, Pitch 1.27 mm; Supplier 1: Digi-Key; Supplier Part Number 1: DS1620S-ND; Supplier 2: Mouser; Supplier Part Number 2: N/A; Mounting Technology: Surface Mount; ComponentLink1Description: Manufacturer URL; ComponentLink1URL: http://www.maximintegrated.com/; ComponentLink2Description: Datasheet; ComponentLink2URL: http://datasheets.maximintegrated.com/en/ds/DS1620; ComponentLink3Description: Package Specification; ComponentLink3URL: http://pdfserv.maximintegrated.com/package_dwgs/21-0262.PDF
footprint MAXM-W8-2_N (SOIC, 8-Leads, Body 5.31x5.285mm, Pitch 1.27mm, IPC Medium Density)
footprint MAXM-W8-2_L (SOIC, 8-Leads, Body 5.31x5.285mm, Pitch 1.27mm, IPC High Density)
footprint MAXM-W8-2_M (SOIC, 8-Leads, Body 5.31x5.285mm, Pitch 1.27mm, IPC Low Density)
pins: 1 DQ (io) "Data Input/Output pin for 3-wire communication port.", 2 CLK/~{CONV} (in) "Clock input pin for 3-wire communication port. When the DS1620 is used in a stand-alone application with no 3-wire port, this pin can be used as a convert pin. Temperature conversion will begin on the falling edge of (See Datasheet)", 3 ~{RST} (in) "Reset input pin for 3-wire communication port.", 4 GND (power) "Ground pin.", 5 TCOM (out) "High/Low Combination Trigger. Goes high when temperature exceeds TH; will reset to low when temperature falls below TL.", 6 TLOW (out) "Low Temperature Trigger. Goes high when temperature falls below TL.", 7 THIGH (out) "High Temperature Trigger. Goes high when temperature exceeds TH.", 8 VDD (power) "Supply Voltage. 2.7V - 5.5V input power pin."

## DS1620S+
designator U?
3-Wire 0.5 degC Accurate Temperature Sensor and Thermostat, -55 to 125 degC, 8-Pin SOIC (W8+2), Pb-Free; Generic Part Number: DS1620; PartNumber: DS1620S+; Functions: Dual Output Temperature Switch, Dual Temperature Alarms, Standalone Thermostat, Temperature Switch/Temperature Comparator; Interface: 3-Wire, Logic; Switch Type: Local; DatasheetVersion: Rev. 3; PackageVersion: Rev. B, 01/2010; PackageReference: W8+2; PackageDescription: 8-Pin Small-Outline IC, Body 5.285 x 5.31 mm, Pitch 1.27 mm; Supplier 1: Digi-Key; Supplier Part Number 1: DS1620S+-ND; Supplier 2: Farnell; Supplier Part Number 2: 9726276; Supplier 3: Newark; Supplier Part Number 3: 27K7439; Supplier 4: Mouser; Supplier Part Number 4: 700-DS1620S; RoHS: Pb-Free; Mounting Technology: Surface Mount; ComponentLink1Description: Manufacturer URL; ComponentLink1URL: http://www.maximintegrated.com/; ComponentLink2Description: Datasheet; ComponentLink2URL: http://datasheets.maximintegrated.com/en/ds/DS1620; ComponentLink3Description: Package Specification; ComponentLink3URL: http://pdfserv.maximintegrated.com/package_dwgs/21-0262.PDF
footprint MAXM-W8+2_N (SOIC, 8-Leads, Body 5.31x5.285mm, Pitch 1.27mm, IPC Medium Density)
footprint MAXM-W8+2_L (SOIC, 8-Leads, Body 5.31x5.285mm, Pitch 1.27mm, IPC High Density)
footprint MAXM-W8+2_M (SOIC, 8-Leads, Body 5.31x5.285mm, Pitch 1.27mm, IPC Low Density)
pins: 1 DQ (io) "Data Input/Output pin for 3-wire communication port.", 2 CLK/~{CONV} (in) "Clock input pin for 3-wire communication port. When the DS1620 is used in a stand-alone application with no 3-wire port, this pin can be used as a convert pin. Temperature conversion will begin on the falling edge of (See Datasheet)", 3 ~{RST} (in) "Reset input pin for 3-wire communication port.", 4 GND (power) "Ground pin.", 5 TCOM (out) "High/Low Combination Trigger. Goes high when temperature exceeds TH; will reset to low when temperature falls below TL.", 6 TLOW (out) "Low Temperature Trigger. Goes high when temperature falls below TL.", 7 THIGH (out) "High Temperature Trigger. Goes high when temperature exceeds TH.", 8 VDD (power) "Supply Voltage. 2.7V - 5.5V input power pin."

## DS1620S+T&R
designator U?
3-Wire 0.5 degC Accurate Temperature Sensor and Thermostat, -55 to 125 degC, 8-Pin SOIC (W8+2), Pb-Free, Tape and Reel; Generic Part Number: DS1620; PartNumber: DS1620S+T&R; Functions: Dual Output Temperature Switch, Dual Temperature Alarms, Standalone Thermostat, Temperature Switch/Temperature Comparator; Interface: 3-Wire, Logic; Switch Type: Local; DatasheetVersion: Rev. 3; PackageVersion: Rev. B, 01/2010; PackageReference: W8+2; PackageDescription: 8-Pin Small-Outline IC, Body 5.285 x 5.31 mm, Pitch 1.27 mm; Supplier 1: Digi-Key; Supplier Part Number 1: DS1620S+T&R-ND; Supplier 2: Mouser; Supplier Part Number 2: 700-DS1620ST&R; Packing: Tape and Reel; RoHS: Pb-Free; Mounting Technology: Surface Mount; ComponentLink1Description: Manufacturer URL; ComponentLink1URL: http://www.maximintegrated.com/; ComponentLink2Description: Datasheet; ComponentLink2URL: http://datasheets.maximintegrated.com/en/ds/DS1620; ComponentLink3Description: Package Specification; ComponentLink3URL: http://pdfserv.maximintegrated.com/package_dwgs/21-0262.PDF
footprint MAXM-W8+2_N (SOIC, 8-Leads, Body 5.31x5.285mm, Pitch 1.27mm, IPC Medium Density)
footprint MAXM-W8+2_L (SOIC, 8-Leads, Body 5.31x5.285mm, Pitch 1.27mm, IPC High Density)
footprint MAXM-W8+2_M (SOIC, 8-Leads, Body 5.31x5.285mm, Pitch 1.27mm, IPC Low Density)
pins: 1 DQ (io) "Data Input/Output pin for 3-wire communication port.", 2 CLK/~{CONV} (in) "Clock input pin for 3-wire communication port. When the DS1620 is used in a stand-alone application with no 3-wire port, this pin can be used as a convert pin. Temperature conversion will begin on the falling edge of (See Datasheet)", 3 ~{RST} (in) "Reset input pin for 3-wire communication port.", 4 GND (power) "Ground pin.", 5 TCOM (out) "High/Low Combination Trigger. Goes high when temperature exceeds TH; will reset to low when temperature falls below TL.", 6 TLOW (out) "Low Temperature Trigger. Goes high when temperature falls below TL.", 7 THIGH (out) "High Temperature Trigger. Goes high when temperature exceeds TH.", 8 VDD (power) "Supply Voltage. 2.7V - 5.5V input power pin."

## DS1620S+T&R/C01
designator U?
3-Wire 0.5 degC Accurate Temperature Sensor and Thermostat, -55 to 125 degC, 8-Pin SOIC (W8+2), Pb-Free, Tape and Reel; Generic Part Number: DS1620; PartNumber: DS1620S+T&R/C01; Functions: Dual Output Temperature Switch, Dual Temperature Alarms, Standalone Thermostat, Temperature Switch/Temperature Comparator; Interface: 3-Wire, Logic; Switch Type: Local; DatasheetVersion: Rev. 3; PackageVersion: Rev. B, 01/2010; PackageReference: W8+2; PackageDescription: 8-Pin Small-Outline IC, Body 5.285 x 5.31 mm, Pitch 1.27 mm; Supplier 1: Mouser; Supplier Part Number 1: N/A; Packing: Tape and Reel; RoHS: Pb-Free; Mounting Technology: Surface Mount; ComponentLink1Description: Manufacturer URL; ComponentLink1URL: http://www.maximintegrated.com/; ComponentLink2Description: Datasheet; ComponentLink2URL: http://datasheets.maximintegrated.com/en/ds/DS1620; ComponentLink3Description: Package Specification; ComponentLink3URL: http://pdfserv.maximintegrated.com/package_dwgs/21-0262.PDF
footprint MAXM-W8+2_N (SOIC, 8-Leads, Body 5.31x5.285mm, Pitch 1.27mm, IPC Medium Density)
footprint MAXM-W8+2_L (SOIC, 8-Leads, Body 5.31x5.285mm, Pitch 1.27mm, IPC High Density)
footprint MAXM-W8+2_M (SOIC, 8-Leads, Body 5.31x5.285mm, Pitch 1.27mm, IPC Low Density)
pins: 1 DQ (io) "Data Input/Output pin for 3-wire communication port.", 2 CLK/~{CONV} (in) "Clock input pin for 3-wire communication port. When the DS1620 is used in a stand-alone application with no 3-wire port, this pin can be used as a convert pin. Temperature conversion will begin on the falling edge of (See Datasheet)", 3 ~{RST} (in) "Reset input pin for 3-wire communication port.", 4 GND (power) "Ground pin.", 5 TCOM (out) "High/Low Combination Trigger. Goes high when temperature exceeds TH; will reset to low when temperature falls below TL.", 6 TLOW (out) "Low Temperature Trigger. Goes high when temperature falls below TL.", 7 THIGH (out) "High Temperature Trigger. Goes high when temperature exceeds TH.", 8 VDD (power) "Supply Voltage. 2.7V - 5.5V input power pin."

## DS1620S/T&R
designator U?
3-Wire 0.5 degC Accurate Temperature Sensor and Thermostat, -55 to 125 degC, 8-Pin SOIC (W8-2), Tape and Reel; Generic Part Number: DS1620; PartNumber: DS1620S/T&R; Functions: Dual Output Temperature Switch, Dual Temperature Alarms, Standalone Thermostat, Temperature Switch/Temperature Comparator; Interface: 3-Wire, Logic; Switch Type: Local; DatasheetVersion: Rev. 3; PackageVersion: Rev. B, 01/2010; PackageReference: W8-2; PackageDescription: 8-Pin Small-Outline IC, Body 5.285 x 5.31 mm, Pitch 1.27 mm; Supplier 1: Digi-Key; Supplier Part Number 1: DS1620S/T&R-ND; Supplier 2: Mouser; Supplier Part Number 2: N/A; Packing: Tape and Reel; Mounting Technology: Surface Mount; ComponentLink1Description: Manufacturer URL; ComponentLink1URL: http://www.maximintegrated.com/; ComponentLink2Description: Datasheet; ComponentLink2URL: http://datasheets.maximintegrated.com/en/ds/DS1620; ComponentLink3Description: Package Specification; ComponentLink3URL: http://pdfserv.maximintegrated.com/package_dwgs/21-0262.PDF
footprint MAXM-W8-2_N (SOIC, 8-Leads, Body 5.31x5.285mm, Pitch 1.27mm, IPC Medium Density)
footprint MAXM-W8-2_L (SOIC, 8-Leads, Body 5.31x5.285mm, Pitch 1.27mm, IPC High Density)
footprint MAXM-W8-2_M (SOIC, 8-Leads, Body 5.31x5.285mm, Pitch 1.27mm, IPC Low Density)
pins: 1 DQ (io) "Data Input/Output pin for 3-wire communication port.", 2 CLK/~{CONV} (in) "Clock input pin for 3-wire communication port. When the DS1620 is used in a stand-alone application with no 3-wire port, this pin can be used as a convert pin. Temperature conversion will begin on the falling edge of (See Datasheet)", 3 ~{RST} (in) "Reset input pin for 3-wire communication port.", 4 GND (power) "Ground pin.", 5 TCOM (out) "High/Low Combination Trigger. Goes high when temperature exceeds TH; will reset to low when temperature falls below TL.", 6 TLOW (out) "Low Temperature Trigger. Goes high when temperature falls below TL.", 7 THIGH (out) "High Temperature Trigger. Goes high when temperature exceeds TH.", 8 VDD (power) "Supply Voltage. 2.7V - 5.5V input power pin."

## DS1621
designator U?
2-wire 0.5 degC Accurate Temperature Sensor and Thermostat, 9 to 12 Bits Temperature Resolution, -55 to 125 degC, 8-Pin DIP (P8-4); Generic Part Number: DS1621; Functions: Single Temperature Alarm; Interface: 2-Wire/I2C/SMBus; Multi Droppable: Yes; Parasite Pwr.: No; DatasheetVersion: Rev. 3; PackageVersion: Rev. E, 04/2011; PackageReference: P8-4; PackageDescription: 8-Pin Plastic Dual-In-Line, Narrow, Body 9.375 x 6.985 mm, Pitch 2.54 mm; Supplier 1: Digi-Key; Supplier Part Number 1: DS1621-ND; Supplier 2: Mouser; Supplier Part Number 2: N/A; Mounting Technology: Through Hole; Code_JEDEC: MO-058AB; PartNumber: DS1621; ComponentLink1Description: Manufacturer URL; ComponentLink1URL: http://www.maximintegrated.com/; ComponentLink2Description: Datasheet; ComponentLink2URL: http://datasheets.maximintegrated.com/en/ds/DS1621.pdf; ComponentLink3Description: Package Specification; ComponentLink3URL: http://pdfserv.maximintegrated.com/package_dwgs/21-0043.PDF
footprint MAXM-P8-4 (DIP, 8-Leads, Body 9.375x6.985mm, Pitch 2.54mm)
pins: 1 SDA (io) "Data input/output pin for 2-wire serial communication port.", 2 SCL (io) "Clock input/output pin for 2-wire serial communication port.", 3 TOUT (out) "Thermostat output. Active when temperature exceeds TH; will reset when temperature falls below TL.", 4 GND (power) "Ground pin.", 5 A2 (in) "Address input pin.", 6 A1 (in) "Address input pin.", 7 A0 (in) "Address input pin.", 8 VDD (power) "Supply voltage input power pin. (2.7V to 5.5V)"

## DS1621+
designator U?
2-wire 0.5 degC Accurate Temperature Sensor and Thermostat, 9 to 12 Bits Temperature Resolution, -55 to 125 degC, 8-Pin DIP (P8+1), Pb-Free; Generic Part Number: DS1621; PartNumber: DS1621+; Functions: Single Temperature Alarm; Interface: 2-Wire/I2C/SMBus; Multi Droppable: Yes; Parasite Pwr.: No; DatasheetVersion: Rev. 3; PackageVersion: Rev. E, 04/2011; PackageReference: P8+1; PackageDescription: 8-Pin Plastic Dual-In-Line, Narrow (0.3in) (P8+1), Body 9.375 x 6.985 mm, Pitch 2.54 mm; Supplier 1: Digi-Key; Supplier Part Number 1: DS1621+-ND; Supplier 2: Newark; Supplier Part Number 2: 57K0854; Supplier 3: Newark; Supplier Part Number 3: 96K8882; Supplier 4: Mouser; Supplier Part Number 4: 700-DS1621; Mounting Technology: Through Hole; Code_JEDEC: MS001-XX; ComponentLink1Description: Manufacturer URL; ComponentLink1URL: http://www.maximintegrated.com/; ComponentLink2Description: Datasheet; ComponentLink2URL: http://datasheets.maximintegrated.com/en/ds/DS1621.pdf; ComponentLink3Description: Package Specification; ComponentLink3URL: http://pdfserv.maximintegrated.com/package_dwgs/21-0043.PDF
footprint MAXM-P8+1 (DIP, 8-Leads, Body 9.375x6.985mm, Pitch 2.54mm)
pins: 1 SDA (io) "Data input/output pin for 2-wire serial communication port.", 2 SCL (io) "Clock input/output pin for 2-wire serial communication port.", 3 TOUT (out) "Thermostat output. Active when temperature exceeds TH; will reset when temperature falls below TL.", 4 GND (power) "Ground pin.", 5 A2 (in) "Address input pin.", 6 A1 (in) "Address input pin.", 7 A0 (in) "Address input pin.", 8 VDD (power) "Supply voltage input power pin. (2.7V to 5.5V)"